# Altium footprint library 532614005.PcbLib: 3 footprints
Each footprint in its own frame and in the unit in brackets; x right, y up, seen from the top. Pads: shape width x height; smd on the part's side, far side on the other; paste and mask are expansions set on the pad; w line width, h text height; cw(c..) or ccw(c..) is an arc to the next point about the centre after c.
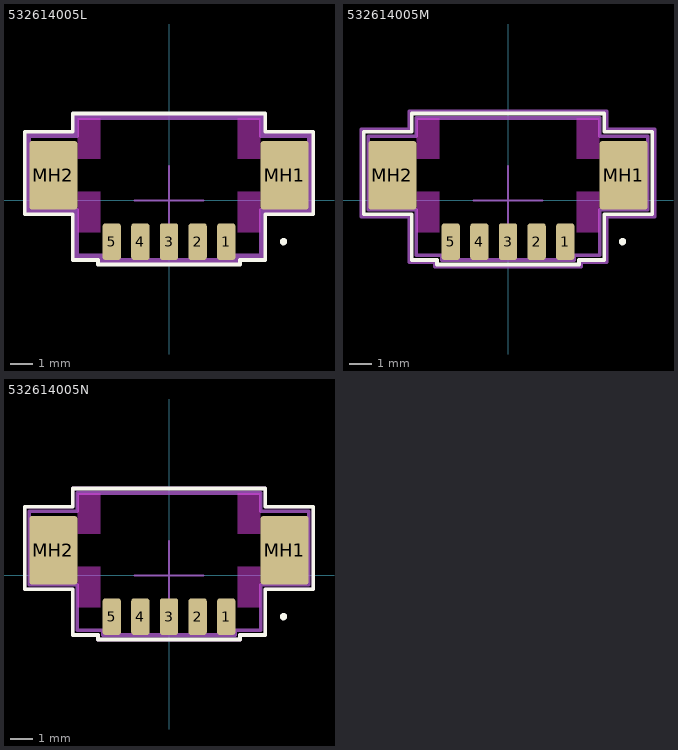
[diagram p0: the footprints below, top view; thin cyan lines are the x and y axes]

## 532614005L [mm] "Molex PicoBlade 5-Pin Right-Angle Connector with Gold Coating"
height 3.4
pads (7):
  rrect31% 0.8x1.6 smd: 1(2.5,-1.8) 2(1.25,-1.8) 3(0,-1.8) 4(-1.25,-1.8) 5(-2.5,-1.8)
  rrect12% 2.1x3 smd: MH1(5.05,1.1) MH2(-5.05,1.1)
Top Layer keep-out:
  rectangle: -4,3.6 -3,1.8
  rectangle: 4,3.6 3,1.8
  rectangle: -4,-1.4 -3,0.4
  rectangle: 4,-1.4 3,0.4
Top Overlay:
  circle w0.16: c5,-1.8 r0.08
  lines w0.16: -6.3,-0.6 -4.2,-0.6 -4.2,-2.6 -3.1,-2.6 -3.1,-2.8 3.1,-2.8 3.1,-2.6 4.2,-2.6 4.2,-0.6 6.3,-0.6 6.3,3 4.2,3 4.2,3.8 -4.2,3.8 -4.2,3 -6.3,3 -6.3,-0.6
Top Component Center:
  lines w0.1: -1.5,0 1.5,0 ; 0,-1.5 0,1.5
Top Courtyard:
  lines w0.16: -6.2,-0.5 -4.1,-0.5 -4.1,-2.5 -3,-2.5 -3,-2.7 3,-2.7 3,-2.5 4.1,-2.5 4.1,-0.5 6.2,-0.5 6.2,2.9 4.1,2.9 4.1,3.7 -4.1,3.7 -4.1,2.9 -6.2,2.9 -6.2,-0.5
Top Assembly:
  lines w0.16: -6.1,-0.4 -4,-0.4 -4,-2.4 -2.9,-2.4 -2.9,-2.6 2.9,-2.6 2.9,-2.4 4,-2.4 4,-0.4 6.1,-0.4 6.1,2.8 4,2.8 4,3.6 -4,3.6 -4,2.8 -6.1,2.8 -6.1,-0.4
3D body "532614005L.STEP": height 3.4, standoff 0, extent -5.7,-2 5.7,3.2

## 532614005M [mm] "Molex PicoBlade 5-Pin Right-Angle Connector with Gold Coating"
height 3.4
pads (7):
  rrect31% 0.8x1.6 smd: 1(2.5,-1.8) 2(1.25,-1.8) 3(0,-1.8) 4(-1.25,-1.8) 5(-2.5,-1.8)
  rrect12% 2.1x3 smd: MH1(5.05,1.1) MH2(-5.05,1.1)
Top Layer keep-out:
  rectangle: -4,3.6 -3,1.8
  rectangle: 4,3.6 3,1.8
  rectangle: -4,-1.4 -3,0.4
  rectangle: 4,-1.4 3,0.4
Top Overlay:
  circle w0.16: c5,-1.8 r0.08
  lines w0.16: -6.3,-0.6 -4.2,-0.6 -4.2,-2.6 -3.1,-2.6 -3.1,-2.8 3.1,-2.8 3.1,-2.6 4.2,-2.6 4.2,-0.6 6.3,-0.6 6.3,3 4.2,3 4.2,3.8 -4.2,3.8 -4.2,3 -6.3,3 -6.3,-0.6
Top Component Center:
  lines w0.1: -1.5,0 1.5,0 ; 0,-1.5 0,1.5
Top Courtyard:
  lines w0.16: -6.4,-0.7 -4.3,-0.7 -4.3,-2.7 -3.2,-2.7 -3.2,-2.9 3.2,-2.9 3.2,-2.7 4.3,-2.7 4.3,-0.7 6.4,-0.7 6.4,3.1 4.3,3.1 4.3,3.9 -4.3,3.9 -4.3,3.1 -6.4,3.1 -6.4,-0.7
Top Assembly:
  lines w0.16: -6.1,-0.4 -4,-0.4 -4,-2.4 -2.9,-2.4 -2.9,-2.6 2.9,-2.6 2.9,-2.4 4,-2.4 4,-0.4 6.1,-0.4 6.1,2.8 4,2.8 4,3.6 -4,3.6 -4,2.8 -6.1,2.8 -6.1,-0.4
3D body "532614005M.STEP": height 3.4, standoff 0, extent -5.7,-2 5.7,3.2

## 532614005N [mm] "Molex PicoBlade 5-Pin Right-Angle Connector with Gold Coating"
height 3.4
pads (7):
  rrect31% 0.8x1.6 smd: 1(2.5,-1.8) 2(1.25,-1.8) 3(0,-1.8) 4(-1.25,-1.8) 5(-2.5,-1.8)
  rrect12% 2.1x3 smd: MH1(5.05,1.1) MH2(-5.05,1.1)
Top Layer keep-out:
  rectangle: -4,3.6 -3,1.8
  rectangle: 4,3.6 3,1.8
  rectangle: -4,-1.4 -3,0.4
  rectangle: 4,-1.4 3,0.4
Top Overlay:
  circle w0.16: c5,-1.8 r0.08
  lines w0.16: -6.3,-0.6 -4.2,-0.6 -4.2,-2.6 -3.1,-2.6 -3.1,-2.8 3.1,-2.8 3.1,-2.6 4.2,-2.6 4.2,-0.6 6.3,-0.6 6.3,3 4.2,3 4.2,3.8 -4.2,3.8 -4.2,3 -6.3,3 -6.3,-0.6
Top Component Center:
  lines w0.1: -1.5,0 1.5,0 ; 0,-1.5 0,1.5
Top Courtyard:
  lines w0.16: -6.3,-0.6 -4.2,-0.6 -4.2,-2.6 -3.1,-2.6 -3.1,-2.8 3.1,-2.8 3.1,-2.6 4.2,-2.6 4.2,-0.6 6.3,-0.6 6.3,3 4.2,3 4.2,3.8 -4.2,3.8 -4.2,3 -6.3,3 -6.3,-0.6
Top Assembly:
  lines w0.16: -6.1,-0.4 -4,-0.4 -4,-2.4 -2.9,-2.4 -2.9,-2.6 2.9,-2.6 2.9,-2.4 4,-2.4 4,-0.4 6.1,-0.4 6.1,2.8 4,2.8 4,3.6 -4,3.6 -4,2.8 -6.1,2.8 -6.1,-0.4
3D body "532614005N.STEP": height 3.4, standoff 0, extent -5.7,-2 5.7,3.2